# EAGLE library part MAX1236 (library barthess)
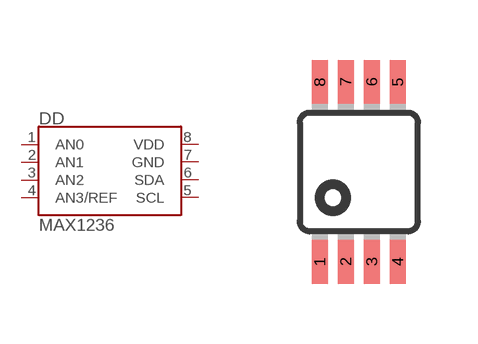
[diagram p14: symbol with the pads of MSOP8; footprint MSOP8]

Designator prefix DD

## MAX1236EUA+  [MSOP8]
1  AN0  in
2  AN1  in
3  AN2  in
4  AN3/REF
5  SCL  oc
6  SDA  oc
7  GND  pwr
8  VDD  pwr

## Footprint MSOP8 (pad centres in mm)
8M, 8-Lead, 0.118" Wide, Miniature Small Outline Package MSOP 8M-Package doc1097.pdf
smd 0.4 x 1.1: 1 -0.975,-2.25; 2 -0.325,-2.25; 3 0.325,-2.25; 4 0.975,-2.25; 5 0.975,2.25; 6 0.325,2.25; 7 -0.325,2.25; 8 -0.975,2.25